# EAGLE library part SAMD20GXXA (library ihpcb-sam)
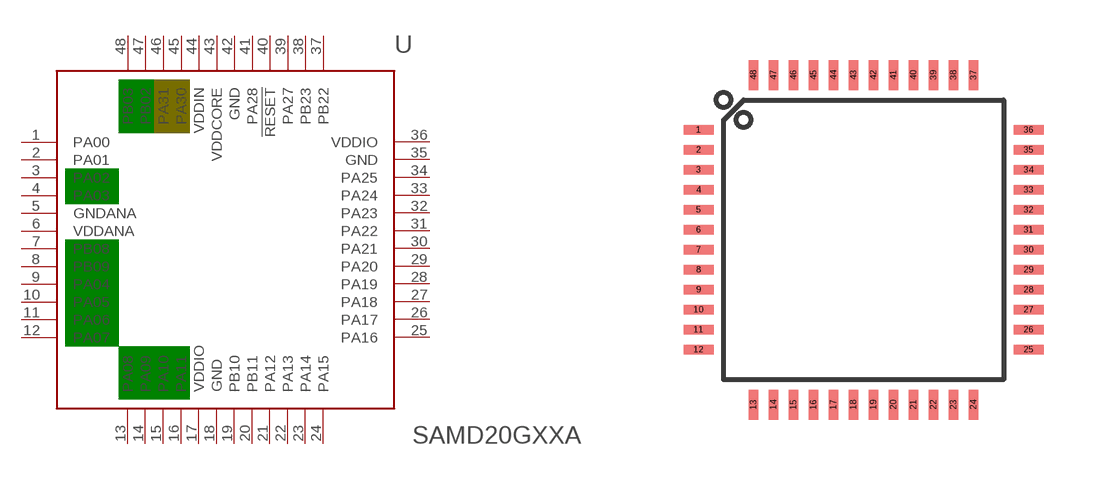
[diagram p2: symbol with the pads of TQFP48; footprint TQFP48]

Designator prefix U

## SAMD20GXXA-AU(T)  [TQFP48]
1  PA00
2  PA01
3  PA02
4  PA03
5  GNDANA
6  VDDANA
7  PB08
8  PB09
9  PA04
10  PA05
11  PA06
12  PA07
13  PA08
14  PA09
15  PA10
16  PA11
17  VDDIO
18  GND
19  PB10
20  PB11
21  PA12
22  PA13
23  PA14
24  PA15
25  PA16
26  PA17
27  PA18
28  PA19
29  PA20
30  PA21
31  PA22
32  PA23
33  PA24
34  PA25
35  GND
36  VDDIO
37  PB22
38  PB23
39  PA27
40  !RESET
41  PA28
42  GND
43  VDDCORE
44  VDDIN
45  PA30
46  PA31
47  PB02
48  PB03

## Footprint TQFP48 (pad centres in mm)
smd 0.75 x 0.23: 1 -4.125,2.75; 2 -4.125,2.25; 3 -4.125,1.75; 4 -4.125,1.25; 5 -4.125,0.75; 6 -4.125,0.25; 7 -4.125,-0.25; 8 -4.125,-0.75; 9 -4.125,-1.25; 10 -4.125,-1.75; 11 -4.125,-2.25; 12 -4.125,-2.75; 25 4.125,-2.75; 26 4.125,-2.25; 27 4.125,-1.75; 28 4.125,-1.25; 29 4.125,-0.75; 30 4.125,-0.25; 31 4.125,0.25; 32 4.125,0.75; 33 4.125,1.25; 34 4.125,1.75; 35 4.125,2.25; 36 4.125,2.75
smd 0.23 x 0.75: 13 -2.75,-4.125; 14 -2.25,-4.125; 15 -1.75,-4.125; 16 -1.25,-4.125; 17 -0.75,-4.125; 18 -0.25,-4.125; 19 0.25,-4.125; 20 0.75,-4.125; 21 1.25,-4.125; 22 1.75,-4.125; 23 2.25,-4.125; 24 2.75,-4.125; 37 2.75,4.125; 38 2.25,4.125; 39 1.75,4.125; 40 1.25,4.125; 41 0.75,4.125; 42 0.25,4.125; 43 -0.25,4.125; 44 -0.75,4.125; 45 -1.25,4.125; 46 -1.75,4.125; 47 -2.25,4.125; 48 -2.75,4.125